# Altium footprint library TVS_PTVS3V3S1UR.PcbLib: 1 footprints
Each footprint in its own frame and in the unit in brackets; x right, y up, seen from the top. Pads: shape width x height; smd on the part's side, far side on the other; paste and mask are expansions set on the pad; w line width, h text height; cw(c..) or ccw(c..) is an arc to the next point about the centre after c.
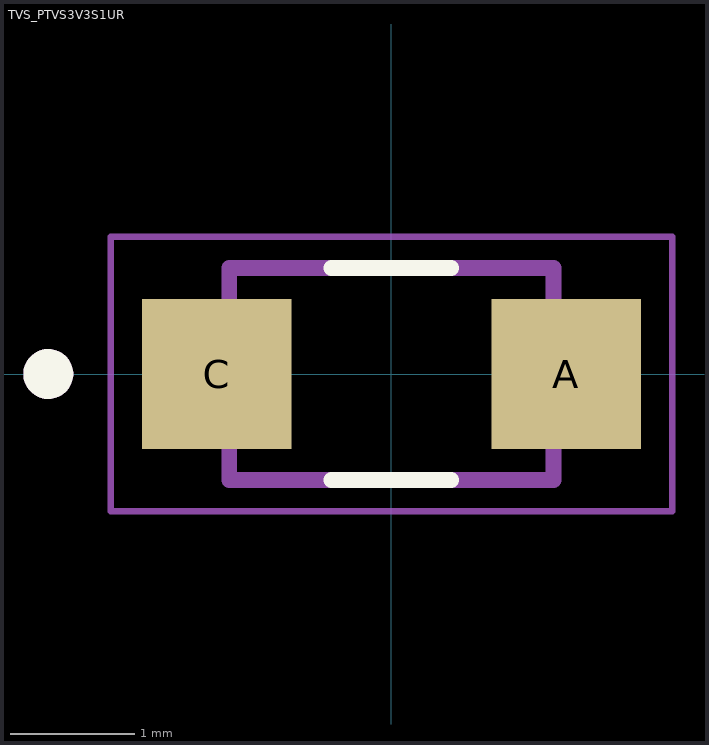
[diagram p0: the footprint, top view; thin cyan lines are the x and y axes]

## TVS_PTVS3V3S1UR [mm]
height 1.1
pads (2):
  rect 1.2x1.2 smd paste-0.05: A(1.4,0) C(-1.4,0)
Top Overlay:
  circle w0.2: c-2.75,0 r0.1
  lines w0.127: -0.48,-0.85 0.48,-0.85 ; -0.48,0.85 0.48,0.85
Mechanical 13:
  circle w0.2: c-2.75,0 r0.1
  lines w0.127: -1.3,-0.85 1.3,-0.85 1.3,0.85 -1.3,0.85 -1.3,-0.85
Mechanical 15:
  lines w0.05: -2.25,-1.1 2.25,-1.1 2.25,1.1 -2.25,1.1 -2.25,-1.1
3D body "PTVS3V3S1UR_8X.STEP": height 1.1, standoff 0, extent -1.877,-0.85 1.623,0.85